# EAGLE library part 15EDGRC-3.81-7P (library con-degson)
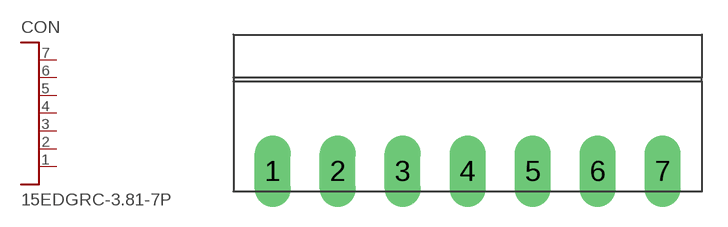
[diagram p28: symbol with the pads of 15EDGRC-3.81-7P; footprint 15EDGRC-3.81-7P]

Designator prefix CON

## 15EDGRC-3.81-7P  [15EDGRC-3.81-7P]
1  P$1
2  P$2
3  P$3
4  P$4
5  P$5
6  P$6
7  P$7

## Footprint 15EDGRC-3.81-7P (pad centres in mm)
drill 1.4 long: 1 -11.43,0; 2 -7.62,0; 3 -3.81,0; 4 0,0; 5 3.81,0; 6 7.62,0; 7 11.43,0